# EAGLE library part I__LITTLE-DE_74*2G125 (library ..SMD)
Dual line drivers with 3-state outputs.
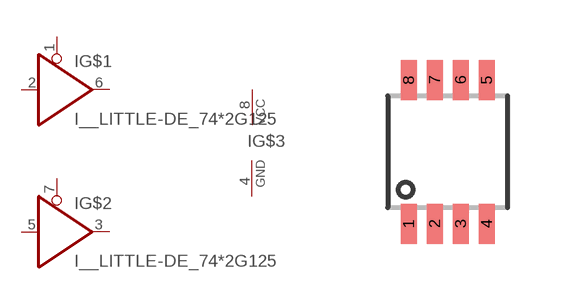
[diagram p341: symbol with the pads of SSOP08; footprint SSOP08]

Designator prefix I; gates G$1=74125-1 G$2=74125-1 G$3=PWRN-3

## I__LITTLE-DE_74LVC2G125DCT  [SSOP08]
1  G$1:OE  in
2  G$1:I  in
3  G$2:O  hiz
4  G$3:GND  pwr
5  G$2:I  in
6  G$1:O  hiz
7  G$2:OE  in
8  G$3:VCC  pwr

## Footprint SSOP08 (pad centres in mm)
SMT SSOP 08
smd 0.4 x 1: 1 -0.975,-1.8; 2 -0.325,-1.8; 3 0.325,-1.8; 4 0.975,-1.8; 5 0.975,1.8; 6 0.325,1.8; 7 -0.325,1.8; 8 -0.975,1.8